# EAGLE library part DRV8838 (library masterclock)
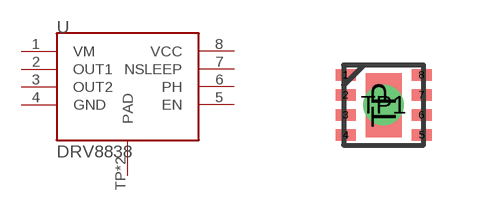
[diagram p0: symbol with the pads of WSON8; footprint WSON8]

Designator prefix -

## DRV8838  [WSON8]
1  VM
2  OUT1
3  OUT2
4  GND
5  EN
6  PH
7  NSLEEP
8  VCC
TP  PAD
TP1  PAD

## Footprint WSON8 (pad centres in mm)
smd 0.5 x 0.28: 1 -0.95,0.75; 2 -0.95,0.25; 3 -0.95,-0.25; 4 -0.95,-0.75; 5 0.95,-0.75; 6 0.95,-0.25; 7 0.95,0.25; 8 0.95,0.75
smd 0.9 x 1.6: TP 0,0
drill 0.5: TP1 0,0